# EAGLE library part EBC91_6AV6 (library radiotubes)
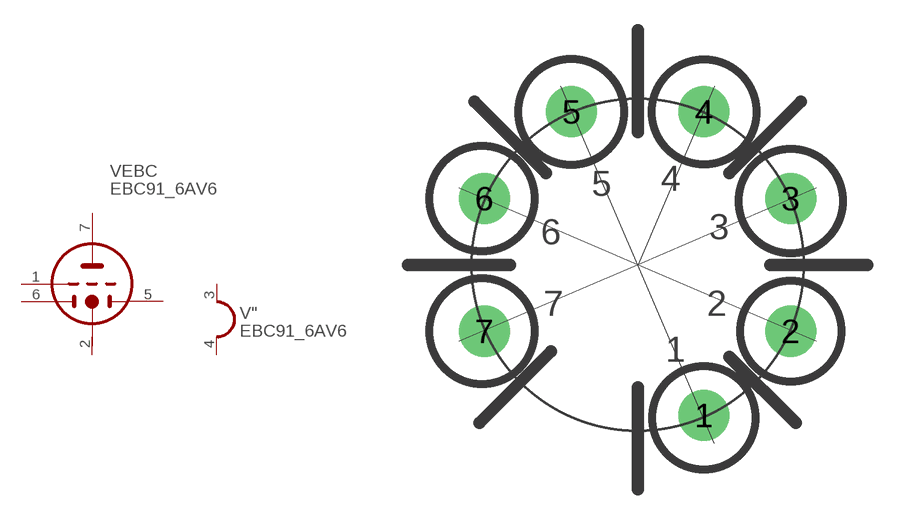
[diagram p101: symbol with the pads of MI7PIN; footprint MI7PIN]

Designator prefix V; gates EBC=DDI-TRI "=HEATER_1

## EBC91_6AV6  [MI7PIN]
1  EBC:G  pas
2  EBC:K  pas
3  ":H1  pas
4  ":H2  pas
5  EBC:D2  pas
6  EBC:D1  pas
7  EBC:A  pas

## Footprint MI7PIN (pad centres in mm)
drill 0.813 pad 2.54: 1 3.302,-7.493; 2 7.62,-3.302; 3 7.62,3.302; 4 3.302,7.62; 5 -3.302,7.62; 6 -7.62,3.302; 7 -7.62,-3.302